# Altium integrated library IGBT_60N120 .IntLib: 1 symbol
Pins are listed as number, name and electrical type; pins without a type are passive.

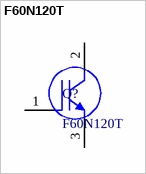
[diagram p0: symbol F60N120T]

## F60N120T
designator Q?
footprint TO-264-3
pins: 1 G, 2 C, 3 E